# EAGLE library part EBF89 (library radiotubes)
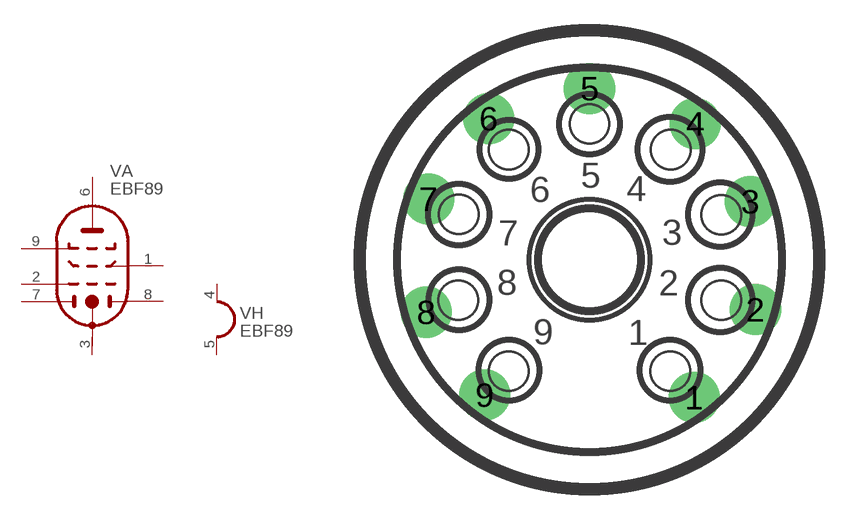
[diagram p90: symbol with the pads of NOVAL; footprint NOVAL]

Designator prefix V; gates A=DDI-PENT H=HEATER_1

## EBF89  [NOVAL]
1  A:PG2  pas
2  A:PG1  pas
3  A:K+S  pas
4  H:H1  pas
5  H:H2  pas
6  A:PA  pas
7  A:D1  pas
8  A:D2  pas
9  A:PG3  pas

## Footprint NOVAL (pad centres in mm)
drill 1.422 pad 2.54: 1 5.207,-6.858; 2 8.254,-2.484; 3 8.004,2.893; 4 5.258,6.77; 5 0,8.524; 6 -5.004,7.024; 7 -8.004,3.02; 8 -8.127,-2.611; 9 -5.207,-6.731